# Altium integrated library B2B-PH-K-S_LF__SN_.IntLib: 1 symbol
Pins are listed as number, name and electrical type; pins without a type are passive.

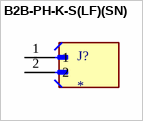
[diagram p0: symbol B2B-PH-K-S(LF)(SN)]

## B2B-PH-K-S(LF)(SN)
designator J?
Connector Header Through Hole 2 position 0.079 (2.00mm); MF: JST; MP: B2B-PH-K-S (LF)(SN); SnapEDA_Link: https://www.snapeda.com/parts/B2B-PH-K-S%20(LF)(SN)/JST/view-part/?ref=snap; Package: None; Value: *; Check_prices: https://www.snapeda.com/parts/B2B-PH-K-S%20(LF)(SN)/JST/view-part/?ref=eda
footprint JST_B2B-PH-K-S(LF)(SN)
pins: 1, 2